# Altium schematic symbol library Driver_Relay.SchLib: 5 symbols
Pins are listed as number, name and electrical type; pins without a type are passive.

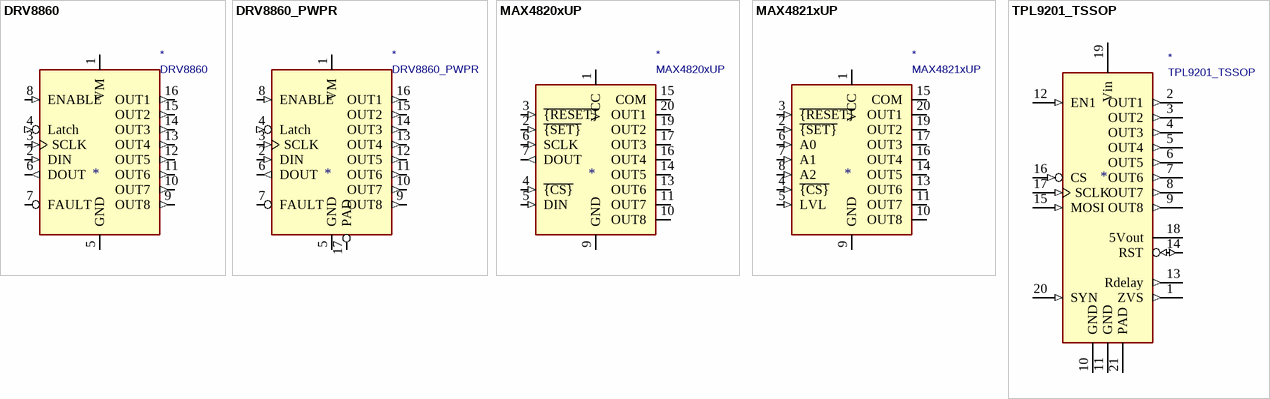
[diagram p0: symbols DRV8860 to TPL9201_TSSOP]

## DRV8860
designator *  value DRV8860
ki_keywords: Relay Driver; ki_description: 8-Channel Serial Interface Low-Side Driver; ki_fp_filters: TSSOP*4.4x5mm*P0.65mm*; Footprint: Package_SO:TSSOP-16_4.4x5mm_P0.65mm; Supplier: http://www.ti.com/lit/ds/symlink/drv8860.pdf
footprint TSSOP-16_4.4x5mm_P0.65mm
pins: 1 VM (power), 2 DIN (in), 3 SCLK (in), 4 Latch (in), 5 GND (power), 6 DOUT (out), 7 FAULT (oc), 8 ENABLE (in), 9 OUT8 (out), 10 OUT7 (out), 11 OUT6 (out), 12 OUT5 (out), 13 OUT4 (out), 14 OUT3 (out), 15 OUT2 (out), 16 OUT1 (out)

## DRV8860_PWPR
designator *  value DRV8860_PWPR
ki_keywords: Relay Driver; ki_description: 8-Channel Serial Interface Low-Side Driver; ki_fp_filters: TSSOP*4.4x5mm*P0.65mm*; Footprint: Package_SO:TSSOP-16-1EP_4.4x5mm_P0.65mm; Supplier: http://www.ti.com/lit/ds/symlink/drv8860.pdf
footprint TSSOP-16-1EP_4.4x5mm_P0.65mm
pins: 1 VM (power), 2 DIN (in), 3 SCLK (in), 4 Latch (in), 5 GND (power), 6 DOUT (out), 7 FAULT (oc), 8 ENABLE (in), 9 OUT8 (out), 10 OUT7 (out), 11 OUT6 (out), 12 OUT5 (out), 13 OUT4 (out), 14 OUT3 (out), 15 OUT2 (out), 16 OUT1 (out), 17 PAD (power)

## MAX4820xUP
designator *  value MAX4820xUP
ki_keywords: Relay Driver; ki_description: 8-Channel Serial Interface Low-Side Driver, TSSOP-20; ki_fp_filters: *TSSOP*4.4x6.5mm*P0.65mm*; Footprint: Package_SO:HTSSOP-20-1EP_4.4x6.5mm_P0.65mm_EP2.85x4mm; Supplier: https://datasheets.maximintegrated.com/en/ds/MAX4820-MAX4821.pdf
footprint HTSSOP-20-1EP_4.4x6.5mm_P0.65mm_EP2.85x4mm
pins: 1 VCC (power), 2 ~{{SET}} (in), 3 ~{{RESET}} (in), 4 ~{{CS}} (in), 5 DIN (in), 6 SCLK (in), 7 DOUT (out), 8 NC (in) hidden, 9 GND (power), 10 OUT8 (oc), 11 OUT7 (oc), 12 GND hidden, 13 OUT6 (oc), 14 OUT5 (oc), 15 COM, 16 OUT4 (oc), 17 OUT3 (oc), 18 GND hidden, 19 OUT2 (oc), 20 OUT1 (oc), 21 GND hidden

## MAX4821xUP
designator *  value MAX4821xUP
ki_keywords: Relay Driver; ki_description: 8-Channel Parallel Interface Low-Side Driver, TSSOP-20; ki_fp_filters: *TSSOP*4.4x6.5mm*P0.65mm*; Footprint: Package_SO:HTSSOP-20-1EP_4.4x6.5mm_P0.65mm_EP2.85x4mm; Supplier: https://datasheets.maximintegrated.com/en/ds/MAX4820-MAX4821.pdf
footprint HTSSOP-20-1EP_4.4x6.5mm_P0.65mm_EP2.85x4mm
pins: 1 VCC (power), 2 ~{{SET}} (in), 3 ~{{RESET}} (in), 4 ~{{CS}} (in), 5 LVL (in), 6 A0 (in), 7 A1 (in), 8 A2 (in), 9 GND (power), 10 OUT8 (oc), 11 OUT7 (oc), 12 GND hidden, 13 OUT6 (oc), 14 OUT5 (oc), 15 COM, 16 OUT4 (oc), 17 OUT3 (oc), 18 GND hidden, 19 OUT2 (oc), 20 OUT1 (oc), 21 GND hidden

## TPL9201_TSSOP
designator *  value TPL9201_TSSOP
ki_keywords: Relay Driver; ki_description: 8-CHANNEL RELAY DRIVER WITH INTEGRATED 5-V LDO AND ZERO-VOLT DETECTION TSSOP-20; ki_fp_filters: HTSSOP*4.4x6.5mm*P0.65mm*ThermalVias*; Footprint: Package_SO:HTSSOP-20-1EP_4.4x6.5mm_P0.65mm_EP3.4x6.5mm_ThermalVias; Supplier: http://www.ti.com/lit/ds/symlink/tpl9201.pdf
footprint HTSSOP-20-1EP_4.4x6.5mm_P0.65mm_EP3.4x6.5mm_ThermalVias
pins: 1 ZVS (out), 2 OUT1 (out), 3 OUT2 (out), 4 OUT3 (out), 5 OUT4 (out), 6 OUT5 (out), 7 OUT6 (out), 8 OUT7 (out), 9 OUT8 (out), 10 GND (power), 11 GND (power), 12 EN1 (in), 13 Rdelay (out), 14 RST (io), 15 MOSI (in), 16 CS (in), 17 SCLK (in), 18 5Vout (power), 19 Vin (power), 20 SYN (in), 21 PAD (power)